# EAGLE library part NOKIA6100_LCD_SMALL (library nokia_6100)
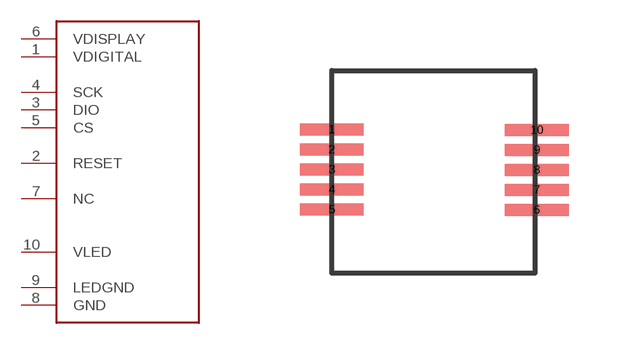
[diagram p1: symbol with the pads of NOKIA6100_LCD_SMALL; footprint NOKIA6100_LCD_SMALL]

Designator prefix -

## NOKIA6100_LCD_SMALL  [NOKIA6100_LCD_SMALL]
1  VDIGITAL
2  RESET
3  DIO
4  SCK
5  CS
6  VDISPLAY
7  NC
8  GND
9  LEDGND
10  VLED

## Footprint NOKIA6100_LCD_SMALL (pad centres in mm)
smd 1.6 x 0.3: 1 -2.415,1.131; 2 -2.415,0.631; 3 -2.415,0.131; 4 -2.415,-0.369; 5 -2.415,-0.869; 6 2.719,-0.877; 7 2.719,-0.377; 8 2.719,0.123; 9 2.719,0.623; 10 2.719,1.123